# EAGLE library part MINI-USB-SHIELD- (library usb_con-update)
MINI USB Connector Source: http://www.hirose.co.jp/cataloge_hp/e24000019.pdf
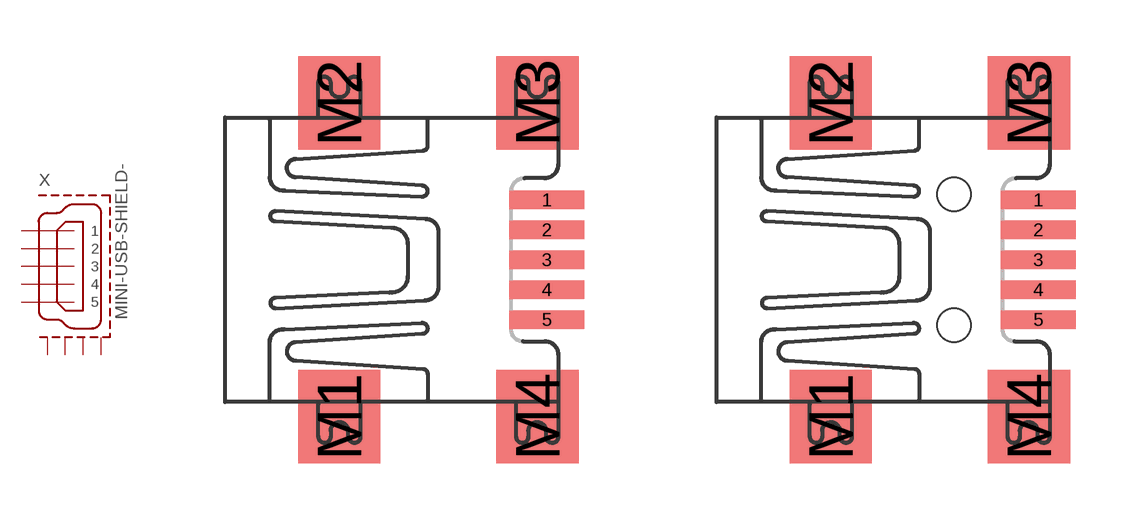
[diagram p1: symbol with the pads of UX60A-MB-5ST; footprints UX60A-MB-5ST, UX60-MB-5ST]

Designator prefix X

## MINI-USB-SHIELD-UX60A-MB-5ST  [UX60A-MB-5ST]
1  1  in
2  2  in
3  3  in
4  4  nc
5  5  in
M1  GND1
M2  GND2
M3  GND3
M4  GND4

## MINI-USB-SHIELD-UX60-MB-5ST  [UX60-MB-5ST]
Pads as for UX60A-MB-5ST

## MINI-USB-SHIELD-UX60-MB-5S8  [UX60-MB-5S8]
Pads as for UX60A-MB-5ST

## Footprint UX60A-MB-5ST (pad centres in mm)
MINI USB Connector HI-SPEED Certified Metal Shield SMT Type Without Positioning Post Source: http://www.hirose.co.jp/cataloge_hp/e24000019.pdf
smd 2 x 0.5: 1 2.25,1.6; 2 2.25,0.8; 3 2.25,0; 4 2.25,-0.8; 5 2.25,-1.6
smd 2.2 x 2.5: M1 -3.3,-4.2; M2 -3.3,4.2; M3 2,4.2; M4 2,-4.2

## Footprint UX60-MB-5ST (pad centres in mm)
MINI USB Connector HI-SPEED Certified Metal Shield SMT Type With Positioning Post Source: http://www.hirose.co.jp/cataloge_hp/e24000019.pdf
smd 2 x 0.5: 1 2.25,1.6; 2 2.25,0.8; 3 2.25,0; 4 2.25,-0.8; 5 2.25,-1.6
smd 2.2 x 2.5: M1 -3.3,-4.2; M2 -3.3,4.2; M3 2,4.2; M4 2,-4.2
hole 0.9 at 0,-1.75
hole 0.9 at 0,1.75

## Footprint UX60-MB-5S8 (pad centres in mm)
MINI USB Connector HI-SPEED Certified Metal Shield Dip Type With Positioning Post Source: http://www.hirose.co.jp/cataloge_hp/e24000019.pdf
smd 2 x 0.5: 1 8.65,1.6; 2 8.65,0.8; 3 8.65,0; 4 8.65,-0.8; 5 8.65,-1.6
drill 0.8 long: M1 3.1,-3.65; M2 3.1,3.65; M3 8.4,3.65; M4 8.4,-3.65
hole 0.9 at 6.4,-1.75
hole 0.9 at 6.4,1.75